# Altium footprint library OSHW LOGOS.PcbLib: 2 footprints
Each footprint in its own frame and in the unit in brackets; x right, y up, seen from the top. Pads: shape width x height; smd on the part's side, far side on the other; paste and mask are expansions set on the pad; w line width, h text height; cw(c..) or ccw(c..) is an arc to the next point about the centre after c.
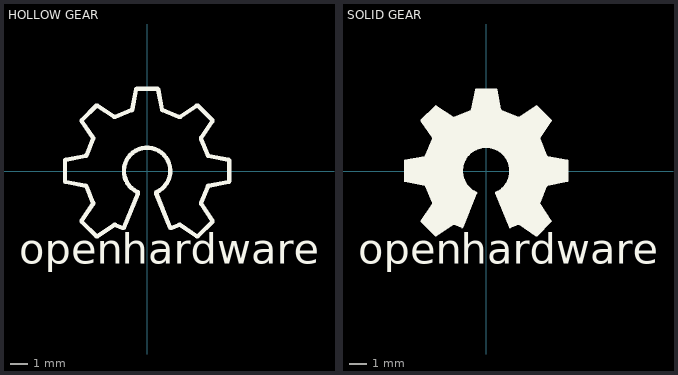
[diagram p0: the footprints below, top view; thin cyan lines are the x and y axes]

## HOLLOW GEAR [mm]
Top Overlay:
  lines w0.254: 0.868,3.609 0.646,4.762 ccw(c0.585,4.75) 0.585,4.812 -0.59,4.812 ccw(c-0.59,4.75) -0.651,4.762 -0.873,3.609 cw(c-0.934,3.621) -0.91,3.564 -1.875,3.164 cw(c-1.899,3.221) -1.934,3.17 -2.906,3.828 ccw(c-2.941,3.776) -2.985,3.82 -3.815,2.99 ccw(c-3.771,2.946) -3.823,2.911 -3.165,1.939 cw(c-3.216,1.904) -3.159,1.88 -3.559,0.915 cw(c-3.616,0.939) -3.604,0.878 -4.757,0.656 ccw(c-4.745,0.595) -4.807,0.595 -4.807,-0.58 ccw(c-4.745,-0.58) -4.757,-0.641 -3.604,-0.863 cw(c-3.616,-0.924) -3.559,-0.9 -3.159,-1.865 cw(c-3.216,-1.889) -3.165,-1.924 -3.823,-2.896 ccw(c-3.771,-2.931) -3.815,-2.974 -2.985,-3.805 ccw(c-2.941,-3.761) -2.906,-3.813 -1.934,-3.155 cw(c-1.899,-3.206) -1.875,-3.149 -1.433,-3.332 ccw(c-1.41,-3.275) -1.352,-3.298 -0.538,-1.305 ccw(c-0.596,-1.282) -0.57,-1.225 cw(c-0.002,0.008) 0.565,-1.225 ccw(c0.591,-1.282) 0.534,-1.305 1.347,-3.298 ccw(c1.405,-3.275) 1.428,-3.332 1.87,-3.149 cw(c1.894,-3.206) 1.929,-3.155 2.901,-3.813 ccw(c2.936,-3.761) 2.98,-3.805 3.81,-2.974 ccw(c3.766,-2.931) 3.818,-2.896 3.16,-1.924 cw(c3.211,-1.889) 3.154,-1.865 3.554,-0.9 cw(c3.611,-0.924) 3.599,-0.863 4.752,-0.641 ccw(c4.74,-0.58) 4.802,-0.58 4.802,0.595 ccw(c4.74,0.595) 4.752,0.656 3.599,0.878 cw(c3.611,0.939) 3.554,0.915 3.154,1.88 cw(c3.211,1.904) 3.16,1.939 3.818,2.911 ccw(c3.766,2.946) 3.81,2.99 2.98,3.82 ccw(c2.936,3.776) 2.901,3.828 1.929,3.17 cw(c1.894,3.221) 1.87,3.164 0.905,3.564 cw(c0.929,3.621) 0.868,3.609
  text "hardware" at -1.5,-6 h3.05
  text "open" at -7.5,-6 h3.05

## SOLID GEAR [mm]
Top Overlay:
  drawing of 1 lines, arcs and shapes, not listed
  text "open" at -7.5,-6 h3.05
  text "hardware" at -1.5,-6 h3.05